# Altium footprint library MOTHERBOARD.PcbLib: 62 footprints (part 3 of 4)
Each footprint in its own frame and in the unit in brackets; x right, y up, seen from the top. Pads: shape width x height; smd on the part's side, far side on the other; paste and mask are expansions set on the pad; w line width, h text height; cw(c..) or ccw(c..) is an arc to the next point about the centre after c.
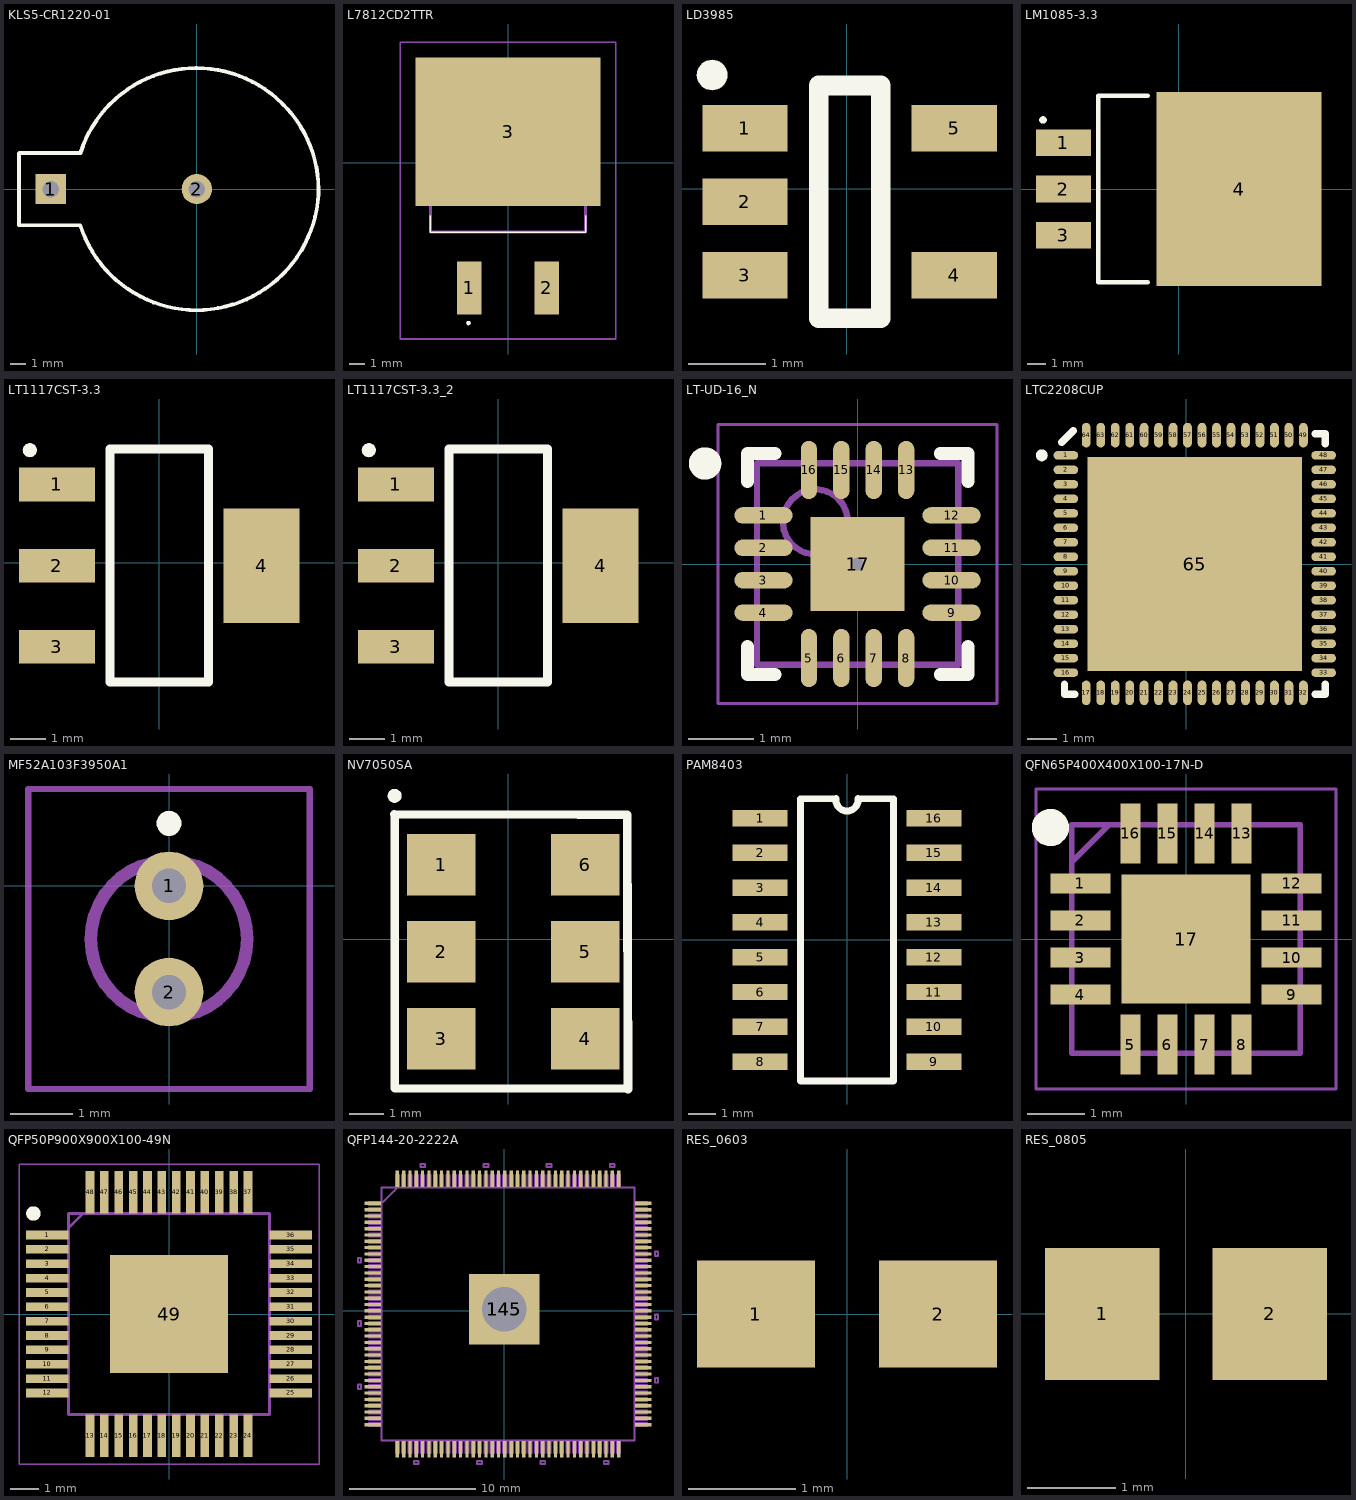
[diagram p2: the footprints below, top view; thin cyan lines are the x and y axes]

## KLS5-CR1220-01 [mm]
pads (2):
  rect 2x2 hole 1.1: 1(-9.65,0)
  round 2 hole 1.1: 2(0,0)
Top Overlay:
  region: -9.021,0.035 -9.025,0.087 -9.039,0.137 -9.061,0.185 -9.091,0.227 -9.128,0.264 -9.171,0.294 -9.218,0.317 -9.269,0.33 -9.321,0.335 -9.373,0.33 -9.423,0.317 -9.471,0.294 -9.513,0.264 -9.55,0.227 -9.58,0.185 -9.602,0.137 -9.616,0.087 -9.621,0.035 -9.616,-0.017 -9.602,-0.068 -9.58,-0.115 -9.55,-0.158 -9.513,-0.195 -9.471,-0.225 -9.423,-0.247 -9.373,-0.261 -9.321,-0.265 -9.269,-0.261 -9.218,-0.247 -9.171,-0.225 -9.128,-0.195 -9.091,-0.158 -9.061,-0.115 -9.039,-0.068 -9.025,-0.017
  lines w0.254: -7.718,-2.387 -11.747,-2.387 -11.747,2.372 -11.727,2.393 -7.682,2.393 cw(c-0.026,-0.031) -0.026,8 ; -7.696,-2.401 ccw(c-0.006,0.08) -0.006,-8 ; -0.052,-8 ccw(c-0.052,0.102) 8.051,0.127 ; -0.046,8 cw(c-0.046,-0.096) 8.049,0.004

## L7812CD2TTR [mm]
pads (3):
  rect 1.6x3.5 smd: 1(-2.54,-8.24) 2(2.54,-8.24)
  rect 12.2x9.75 smd: 3(0,2.035)
Top Overlay:
  lines w0.1: -5.1,-4.575 5.1,-4.575 ; -5.1,-4.575 5.1,-4.575 ; -5.1,-4.575 -5.1,-3.5 -5.1,-4.575 ; 5.1,-4.575 5.1,-3.5 5.1,-4.575
  lines w0.2: -2.6,-10.6 cw(c-2.6,-10.55) -2.6,-10.5 ; -2.6,-10.6 ccw(c-2.6,-10.55) -2.6,-10.5 ; -2.6,-10.6 cw(c-2.6,-10.55) -2.6,-10.5
Mechanical 13:
  lines w0.2: -5.1,-4.575 -5.1,4.575 5.1,4.575 5.1,-4.575 -5.1,-4.575
Mechanical 15:
  lines w0.1: -7.1,-11.6 -7.1,7.91 7.1,7.91 7.1,-11.6 -7.1,-11.6

## LD3985 [mm]
pads (5):
  rect 1.1x0.6 smd: 1(-1.316,0.785) 2(-1.316,-0.165) 3(-1.316,-1.115) 4(1.384,-1.115) 5(1.384,0.785)
Top Overlay:
  region: -1.543,1.469 -1.546,1.503 -1.555,1.536 -1.569,1.567 -1.589,1.595 -1.613,1.619 -1.641,1.638 -1.672,1.653 -1.704,1.662 -1.738,1.665 -1.772,1.662 -1.805,1.653 -1.836,1.638 -1.864,1.619 -1.888,1.595 -1.908,1.567 -1.922,1.536 -1.931,1.503 -1.934,1.469 -1.931,1.435 -1.922,1.402 -1.908,1.371 -1.888,1.343 -1.864,1.319 -1.836,1.3 -1.805,1.285 -1.772,1.276 -1.738,1.273 -1.704,1.276 -1.672,1.285 -1.641,1.3 -1.613,1.319 -1.589,1.343 -1.569,1.371 -1.555,1.402 -1.546,1.435
  lines w0.254: -0.365,-1.665 0.435,-1.665 0.435,1.335 -0.365,1.335 -0.365,-1.665

## LM1085-3.3 [mm]
pads (4):
  rect 3x1.45 smd: 1(-6.3,2.54) 2(-6.3,0) 3(-6.3,-2.54)
  rect 9x10.6 smd: 4(3.3,0)
Top Overlay:
  region: -7.223,3.776 -7.226,3.81 -7.235,3.843 -7.249,3.874 -7.269,3.902 -7.293,3.926 -7.321,3.946 -7.352,3.96 -7.385,3.969 -7.419,3.972 -7.453,3.969 -7.485,3.96 -7.517,3.946 -7.544,3.926 -7.569,3.902 -7.588,3.874 -7.603,3.843 -7.611,3.81 -7.614,3.776 -7.611,3.742 -7.603,3.709 -7.588,3.678 -7.569,3.651 -7.544,3.626 -7.517,3.607 -7.485,3.592 -7.453,3.584 -7.419,3.581 -7.385,3.584 -7.352,3.592 -7.321,3.607 -7.293,3.626 -7.269,3.651 -7.249,3.678 -7.235,3.709 -7.226,3.742
  lines w0.254: -1.7,-5.1 -4.401,-5.1 -4.401,5.1 -1.7,5.1

## LT1117CST-3.3 [mm]
pads (4):
  rect 2.15x0.95 smd: 1(-2.9,2.215) 2(-2.9,-0.085) 3(-2.9,-2.385)
  rect 2.15x3.25 smd: 4(2.9,-0.085)
Top Overlay:
  region: -3.471,3.189 -3.474,3.223 -3.483,3.256 -3.497,3.287 -3.517,3.315 -3.541,3.339 -3.569,3.358 -3.6,3.373 -3.633,3.381 -3.667,3.384 -3.701,3.381 -3.734,3.373 -3.765,3.358 -3.793,3.339 -3.817,3.315 -3.837,3.287 -3.851,3.256 -3.86,3.223 -3.863,3.189 -3.86,3.155 -3.851,3.122 -3.837,3.091 -3.817,3.063 -3.793,3.039 -3.765,3.019 -3.734,3.005 -3.701,2.996 -3.667,2.993 -3.633,2.996 -3.6,3.005 -3.569,3.019 -3.541,3.039 -3.517,3.063 -3.497,3.091 -3.483,3.122 -3.474,3.155
  lines w0.254: -1.4,-3.384 -1.4,3.215 1.4,3.215 1.4,-3.384 -1.4,-3.384

## LT1117CST-3.3_2 [mm]
pads (4):
  rect 2.15x0.95 smd: 1(-2.9,2.215) 2(-2.9,-0.085) 3(-2.9,-2.385)
  rect 2.15x3.25 smd: 4(2.9,-0.085)
Top Overlay:
  region: -3.471,3.189 -3.474,3.223 -3.483,3.256 -3.497,3.287 -3.517,3.315 -3.541,3.339 -3.569,3.358 -3.6,3.373 -3.633,3.381 -3.667,3.384 -3.701,3.381 -3.734,3.373 -3.765,3.358 -3.793,3.339 -3.817,3.315 -3.837,3.287 -3.851,3.256 -3.86,3.223 -3.863,3.189 -3.86,3.155 -3.851,3.122 -3.837,3.091 -3.817,3.063 -3.793,3.039 -3.765,3.019 -3.734,3.005 -3.701,2.996 -3.667,2.993 -3.633,2.996 -3.6,3.005 -3.569,3.019 -3.541,3.039 -3.517,3.063 -3.497,3.091 -3.483,3.122 -3.474,3.155
  lines w0.254: -1.4,-3.384 1.4,-3.384 1.4,3.215 -1.4,3.215 -1.4,-3.384

## LT-UD-16_N [mm] "QFN, 16-Leads, Body 3x3mm, Pitch 0.5mm, Thermal Pad 1.45x1.45mm, IPC Medium Density"
height 0.8
pads (17):
  oval 0.9x0.25 smd: 1(-1.45,0.75) 2(-1.45,0.25) 3(-1.45,-0.25) 4(-1.45,-0.75) 9(1.45,-0.75) 10(1.45,-0.25) 11(1.45,0.25) 12(1.45,0.75)
  oval 0.25x0.9 smd: 5(-0.75,-1.45) 6(-0.25,-1.45) 7(0.25,-1.45) 8(0.75,-1.45) 13(0.75,1.45) 14(0.25,1.45) 15(-0.25,1.45) 16(-0.75,1.45)
  rect 1.45x1.45 smd: 17(0,0)
via 0,0 diameter 0.5 hole 0.2
Top Overlay:
  circle w0.25: c-2.35,1.55 r0.125
  lines w0.2: -1.7,-1.275 -1.7,-1.7 -1.275,-1.7 ; -1.7,1.275 -1.7,1.7 -1.275,1.7 ; 1.275,-1.7 1.7,-1.7 1.7,-1.275 ; 1.275,1.7 1.7,1.7 1.7,1.275
Mechanical 13:
  circle w0.1: c-0.65,0.65 r0.5
  lines w0.1: -1.55,-1.55 -1.55,1.55 1.55,1.55 1.55,-1.55 -1.55,-1.55
Mechanical 15:
  lines w0.05: -2.15,-2.15 -2.15,2.15 2.15,2.15 2.15,-2.15 -2.15,-2.15
  lines w0.1: -0.5,0 0.5,0 ; 0,-0.5 0,0.5
3D body: height 0.8, standoff 0, extent -1.55,-1.55 1.55,1.55

## LTC2208CUP [mm]
pads (65):
  oval 0.85x0.3 smd: 1(-4.147,3.75) 2(-4.147,3.25) 3(-4.147,2.75) 4(-4.147,2.25) 5(-4.147,1.75) 6(-4.147,1.25) 7(-4.147,0.75) 8(-4.147,0.25) 9(-4.147,-0.25) 10(-4.147,-0.75) 11(-4.147,-1.25) 12(-4.147,-1.75) 13(-4.147,-2.25) 14(-4.147,-2.75) 15(-4.147,-3.25) 16(-4.147,-3.75) 33(4.753,-3.75) 34(4.753,-3.25) 35(4.753,-2.75) 36(4.753,-2.25) 37(4.753,-1.75) 38(4.753,-1.25) 39(4.753,-0.75) 40(4.753,-0.25) 41(4.753,0.25) 42(4.753,0.75) 43(4.753,1.25) 44(4.753,1.75) 45(4.753,2.25) 46(4.753,2.75) 47(4.753,3.25) 48(4.753,3.75)
  oval 0.3x0.85 smd: 17(-3.447,-4.45) 18(-2.947,-4.45) 19(-2.447,-4.45) 20(-1.947,-4.45) 21(-1.447,-4.45) 22(-0.947,-4.45) 23(-0.447,-4.45) 24(0.053,-4.45) 25(0.553,-4.45) 26(1.053,-4.45) 27(1.553,-4.45) 28(2.053,-4.45) 29(2.553,-4.45) 30(3.053,-4.45) 31(3.553,-4.45) 32(4.053,-4.45) 49(4.053,4.45) 50(3.553,4.45) 51(3.053,4.45) 52(2.553,4.45) 53(2.053,4.45) 54(1.553,4.45) 55(1.053,4.45) 56(0.553,4.45) 57(0.053,4.45) 58(-0.447,4.45) 59(-0.947,4.45) 60(-1.447,4.45) 61(-1.947,4.45) 62(-2.447,4.45) 63(-2.947,4.45) 64(-3.447,4.45)
  rect 7.4x7.4 smd: 65(0.303,0)
Top Overlay:
  region: -4.779,3.75 -4.782,3.785 -4.791,3.818 -4.806,3.85 -4.826,3.879 -4.851,3.903 -4.879,3.923 -4.911,3.938 -4.944,3.947 -4.979,3.95 -5.013,3.947 -5.047,3.938 -5.078,3.923 -5.107,3.903 -5.132,3.879 -5.151,3.85 -5.166,3.818 -5.175,3.785 -5.178,3.75 -5.175,3.716 -5.166,3.682 -5.151,3.651 -5.132,3.622 -5.107,3.598 -5.078,3.578 -5.047,3.563 -5.013,3.554 -4.979,3.551 -4.944,3.554 -4.911,3.563 -4.879,3.578 -4.851,3.598 -4.826,3.622 -4.806,3.651 -4.791,3.682 -4.782,3.716
  lines w0.254: -4.293,4.2 -3.894,4.6 ; -4.192,-4.15 -4.192,-4.5 -3.842,-4.5 ; 4.453,-4.5 4.803,-4.5 4.803,-4.15 ; 4.453,4.5 4.803,4.5 4.803,4.15

## MF52A103F3950A1 [mm]
pads (2):
  round 1.1 hole 0.55: 1(0,0) 2(0,-1.7)
Top Overlay:
  lines w0.2: -0.1,1 cw(c0,1) 0.1,1 cw(c0,1) -0.1,1
Mechanical 13:
  lines w0.2: -1.25,-0.85 cw(c0,-0.85) 1.25,-0.85 cw(c0,-0.85) -1.25,-0.85
Mechanical 15:
  lines w0.1: -2.25,-3.25 -2.25,1.55 2.25,1.55 2.25,-3.25 -2.25,-3.25
3D body "MF52A103F3950_A1_.stp": height 4.1, standoff -5, extent -1.25,-2.1 1.25,0.4

## NV7050SA [mm]
pads (6):
  rect 2x1.8 smd: 1(-1.948,2.17) 2(-1.948,-0.37) 3(-1.948,-2.91) 4(2.252,-2.91) 5(2.252,-0.37) 6(2.252,2.17)
Top Overlay:
  region: -3.112,4.18 -3.115,4.215 -3.124,4.248 -3.139,4.28 -3.159,4.309 -3.183,4.333 -3.212,4.353 -3.244,4.368 -3.277,4.377 -3.312,4.38 -3.347,4.377 -3.381,4.368 -3.412,4.353 -3.441,4.333 -3.465,4.309 -3.485,4.28 -3.5,4.248 -3.509,4.215 -3.512,4.18 -3.509,4.145 -3.5,4.111 -3.485,4.08 -3.465,4.051 -3.441,4.026 -3.412,4.006 -3.381,3.992 -3.347,3.983 -3.312,3.98 -3.277,3.983 -3.244,3.992 -3.212,4.006 -3.183,4.026 -3.159,4.051 -3.139,4.08 -3.124,4.111 -3.115,4.145
  lines w0.254: -3.318,3.64 2.055,3.63 3.482,3.63 ; -3.308,-4.33 -3.308,3.62 ; -3.297,-4.36 3.512,-4.37 ; 3.482,3.61 3.502,-4.38

## PAM8403 [mm]
pads (16):
  rect 2x0.6 smd: 1(-3.175,4.445) 2(-3.175,3.175) 3(-3.175,1.905) 4(-3.175,0.635) 5(-3.175,-0.635) 6(-3.175,-1.905) 7(-3.175,-3.175) 8(-3.175,-4.445) 9(3.175,-4.445) 10(3.175,-3.175) 11(3.175,-1.905) 12(3.175,-0.635) 13(3.175,0.635) 14(3.175,1.905) 15(3.175,3.175) 16(3.175,4.445)
Top Overlay:
  lines w0.254: -0.4,5.15 -1.7,5.15 -1.7,-5.15 1.7,-5.15 1.7,5.15 0.4,5.15 ; -0.4,5.152 ccw(c0,5.103) 0.4,5.152

## QFN65P400X400X100-17N-D [mm]
pads (17):
  rect 1.05x0.35 smd: 1(-1.85,0.975) 2(-1.85,0.325) 3(-1.85,-0.325) 4(-1.85,-0.975) 9(1.85,-0.975) 10(1.85,-0.325) 11(1.85,0.325) 12(1.85,0.975)
  rect 0.35x1.05 smd: 5(-0.975,-1.85) 6(-0.325,-1.85) 7(0.325,-1.85) 8(0.975,-1.85) 13(0.975,1.85) 14(0.325,1.85) 15(-0.325,1.85) 16(-0.975,1.85)
  rect 2.26x2.26 smd: 17(0,0)
Top Overlay:
  circle w0.325: c-2.375,1.95 r0.162
Mechanical 13:
  lines w0.1: -2,1.35 -1.35,2 ; -2,-2 2,-2 2,2 -2,2 -2,-2
Mechanical 15:
  lines w0.05: -2.625,-2.625 2.625,-2.625 2.625,2.625 -2.625,2.625 -2.625,-2.625
3D body "OPA2673IRGVT.stp": height 1, standoff 0, extent -2.05,-2.05 2.05,2.05

## QFP50P900X900X100-49N [mm]
pads (49):
  rect 1.475x0.3 smd: 1(-4.238,2.75) 2(-4.238,2.25) 3(-4.238,1.75) 4(-4.238,1.25) 5(-4.238,0.75) 6(-4.238,0.25) 7(-4.238,-0.25) 8(-4.238,-0.75) 9(-4.238,-1.25) 10(-4.238,-1.75) 11(-4.238,-2.25) 12(-4.238,-2.75) 25(4.238,-2.75) 26(4.238,-2.25) 27(4.238,-1.75) 28(4.238,-1.25) 29(4.238,-0.75) 30(4.238,-0.25) 31(4.238,0.25) 32(4.238,0.75) 33(4.238,1.25) 34(4.238,1.75) 35(4.238,2.25) 36(4.238,2.75)
  rect 0.3x1.475 smd: 13(-2.75,-4.238) 14(-2.25,-4.238) 15(-1.75,-4.238) 16(-1.25,-4.238) 17(-0.75,-4.238) 18(-0.25,-4.238) 19(0.25,-4.238) 20(0.75,-4.238) 21(1.25,-4.238) 22(1.75,-4.238) 23(2.25,-4.238) 24(2.75,-4.238) 37(2.75,4.238) 38(2.25,4.238) 39(1.75,4.238) 40(1.25,4.238) 41(0.75,4.238) 42(0.25,4.238) 43(-0.25,4.238) 44(-0.75,4.238) 45(-1.25,4.238) 46(-1.75,4.238) 47(-2.25,4.238) 48(-2.75,4.238)
  rect 4.1x4.1 smd: 49(0,0)
Top Overlay:
  circle w0.25: c-4.725,3.5 r0.125
Mechanical 13:
  lines w0.1: -3.5,3 -3,3.5 ; -3.5,-3.5 3.5,-3.5 3.5,3.5 -3.5,3.5 -3.5,-3.5
Mechanical 15:
  lines w0.05: -5.225,-5.225 5.225,-5.225 5.225,5.225 -5.225,5.225 -5.225,-5.225
3D body "DAC5674IPHP.stp": height 1, standoff 0, extent -4.5,-4.5 4.5,4.5

## QFP144-20-2222A [mil]
height 137.8
pads (146):
  rect 52x10 smd: 1(-409.45,334.64) 2(-409.45,314.96) 3(-409.45,295.27) 4(-409.45,275.59) 5(-409.45,255.9) 6(-409.45,236.22) 7(-409.45,216.53) 8(-409.45,196.85) 9(-409.45,177.16) 10(-409.45,157.48) 11(-409.45,137.8) 12(-409.45,118.11) 13(-409.45,98.43) 14(-409.45,78.74) 15(-409.45,59.06) 16(-409.45,39.37) 17(-409.45,19.69) 18(-409.45,0) 19(-409.45,-19.68) 20(-409.45,-39.37) 21(-409.45,-59.06) 22(-409.45,-78.74) 23(-409.45,-98.43) 24(-409.45,-118.11) 25(-409.45,-137.8) 26(-409.45,-157.48) 27(-409.45,-177.17) 28(-409.45,-196.85) 29(-409.45,-216.54) 30(-409.45,-236.22) 31(-409.45,-255.91) 32(-409.45,-275.59) 33(-409.45,-295.28) 34(-409.45,-314.96) 35(-409.45,-334.65) 36(-409.45,-354.33) 73(433.07,-354.33) 74(433.07,-334.65) 75(433.07,-314.96) 76(433.07,-295.28) 77(433.07,-275.59) 78(433.07,-255.91) 79(433.07,-236.22) 80(433.07,-216.54) 81(433.07,-196.85) 82(433.07,-177.17) 83(433.07,-157.48) 84(433.07,-137.8) 85(433.07,-118.11) 86(433.07,-98.43) 87(433.07,-78.74) 88(433.07,-59.06) 89(433.07,-39.37) 90(433.07,-19.68) 91(433.07,0) 92(433.07,19.69) 93(433.07,39.37) 94(433.07,59.06) 95(433.07,78.74) 96(433.07,98.43) 97(433.07,118.11) 98(433.07,137.8) 99(433.07,157.48) 100(433.07,177.16) 101(433.07,196.85) 102(433.07,216.53) 103(433.07,236.22) 104(433.07,255.9) 105(433.07,275.59) 106(433.07,295.27) 107(433.07,314.96) 108(433.07,334.64)
  rect 10x52 smd: 37(-332.68,-431.1) 38(-312.99,-431.1) 39(-293.31,-431.1) 40(-273.62,-431.1) 41(-253.94,-431.1) 42(-234.25,-431.1) 43(-214.57,-431.1) 44(-194.88,-431.1) 45(-175.2,-431.1) 46(-155.51,-431.1) 47(-135.83,-431.1) 48(-116.14,-431.1) 49(-96.46,-431.1) 50(-76.77,-431.1) 51(-57.09,-431.1) 52(-37.4,-431.1) 53(-17.72,-431.1) 54(1.97,-431.1) 55(21.65,-431.1) 56(41.34,-431.1) 57(61.02,-431.1) 58(80.71,-431.1) 59(100.39,-431.1) 60(120.08,-431.1) 61(139.76,-431.1) 62(159.45,-431.1) 63(179.13,-431.1) 64(198.82,-431.1) 65(218.5,-431.1) 66(238.19,-431.1) 67(257.87,-431.1) 68(277.56,-431.1) 69(297.24,-431.1) 70(316.93,-431.1) 71(336.61,-431.1) 72(356.3,-431.1) 109(356.3,411.42) 110(336.61,411.42) 111(316.93,411.42) 112(297.24,411.42) 113(277.56,411.42) 114(257.87,411.42) 115(238.19,411.42) 116(218.5,411.42) 117(198.82,411.42) 118(179.13,411.42) 119(159.45,411.42) 120(139.76,411.42) 121(120.08,411.42) 122(100.39,411.42) 123(80.71,411.42) 124(61.02,411.42) 125(41.34,411.42) 126(21.65,411.42) 127(1.97,411.42) 128(-17.72,411.42) 129(-37.4,411.42) 130(-57.09,411.42) 131(-76.77,411.42) 132(-96.46,411.42) 133(-116.14,411.42) 134(-135.83,411.42) 135(-155.51,411.42) 136(-175.2,411.42) 137(-194.88,411.42) 138(-214.57,411.42) 139(-234.25,411.42) 140(-253.94,411.42) 141(-273.62,411.42) 142(-293.31,411.42) 143(-312.99,411.42) 144(-332.68,411.42)
  rect 220x220 smd: 145(0,5)
  round 157.48 hole 137.8: 145(0,5)
Mechanical 15:
  drawing of 648 lines, arcs and shapes, not listed
  text "*" at -483.19,384.16 h50
  text "*" at -483.19,384.16 h50

## RES_0603 [mm]
pads (2):
  rect 1.1x1 smd: 1(-0.85,0) 2(0.85,0)

## RES_0805 [mm]
pads (2):
  rect 1.3x1.5 smd: 1(-0.95,0) 2(0.95,0)